# EAGLE library part WE-POE+_EFD20 (library Wurth_Elektronik_Passive_rev16c)
Power over Ethernet Plus Transformer Characteristics Designed to meet 25 W PoE+ requirements of IEEE802.3at Frequency range: 250–400 kHz Input voltage range: 36–72 V 1.5 kV Hipot test between primary and secondary Operating temperature: –40 °C to +125 °C Applications PoE+ powered devices IP phones WLAN-Access points Security cameras <http://katalog.we-online.de/media/images/eisos/UtPOE+_MID_pf2.jpg> Details see: http://katalog.we-online.de/en/pbs/WE-PoE_Plus? Updated by Dan Xu 2014-07-08 2014 (C) Wurth Elektronik
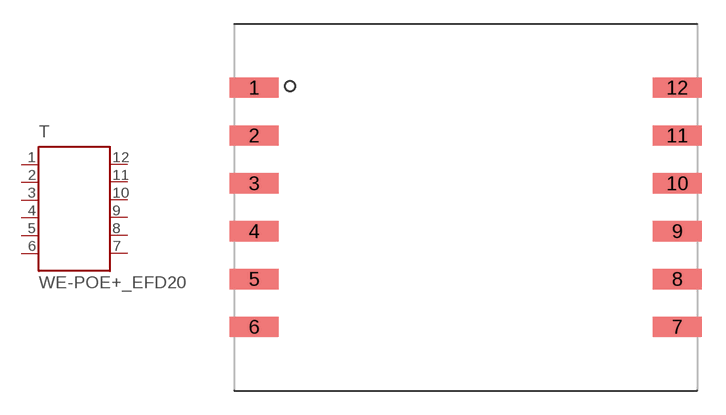
[diagram p22: symbol with the pads of WE_EFD20_SMD_12PIN; footprint WE_EFD20_SMD_12PIN]

Designator prefix T

## WE-POE+_EFD20  [WE_EFD20_SMD_12PIN]
1  1  pas
2  2  pas
3  3  pas
4  4  pas
5  5  pas
6  6  pas
7  7  pas
8  8  pas
9  9  pas
10  10  pas
11  11  pas
12  12  pas

## Footprint WE_EFD20_SMD_12PIN (pad centres in mm)
Transformer, EFD20 SMD 12 Pin
smd 3.05 x 1.27: 1 -13.26,7.5; 2 -13.26,4.5; 3 -13.26,1.5; 4 -13.26,-1.5; 5 -13.26,-4.5; 6 -13.26,-7.5; 7 13.26,-7.5; 8 13.26,-4.5; 9 13.26,-1.5; 10 13.26,1.5; 11 13.26,4.5; 12 13.26,7.5